# Altium schematic symbol library Connectors.SchLib: 43 symbols
Pins are listed as number, name and electrical type; pins without a type are passive.

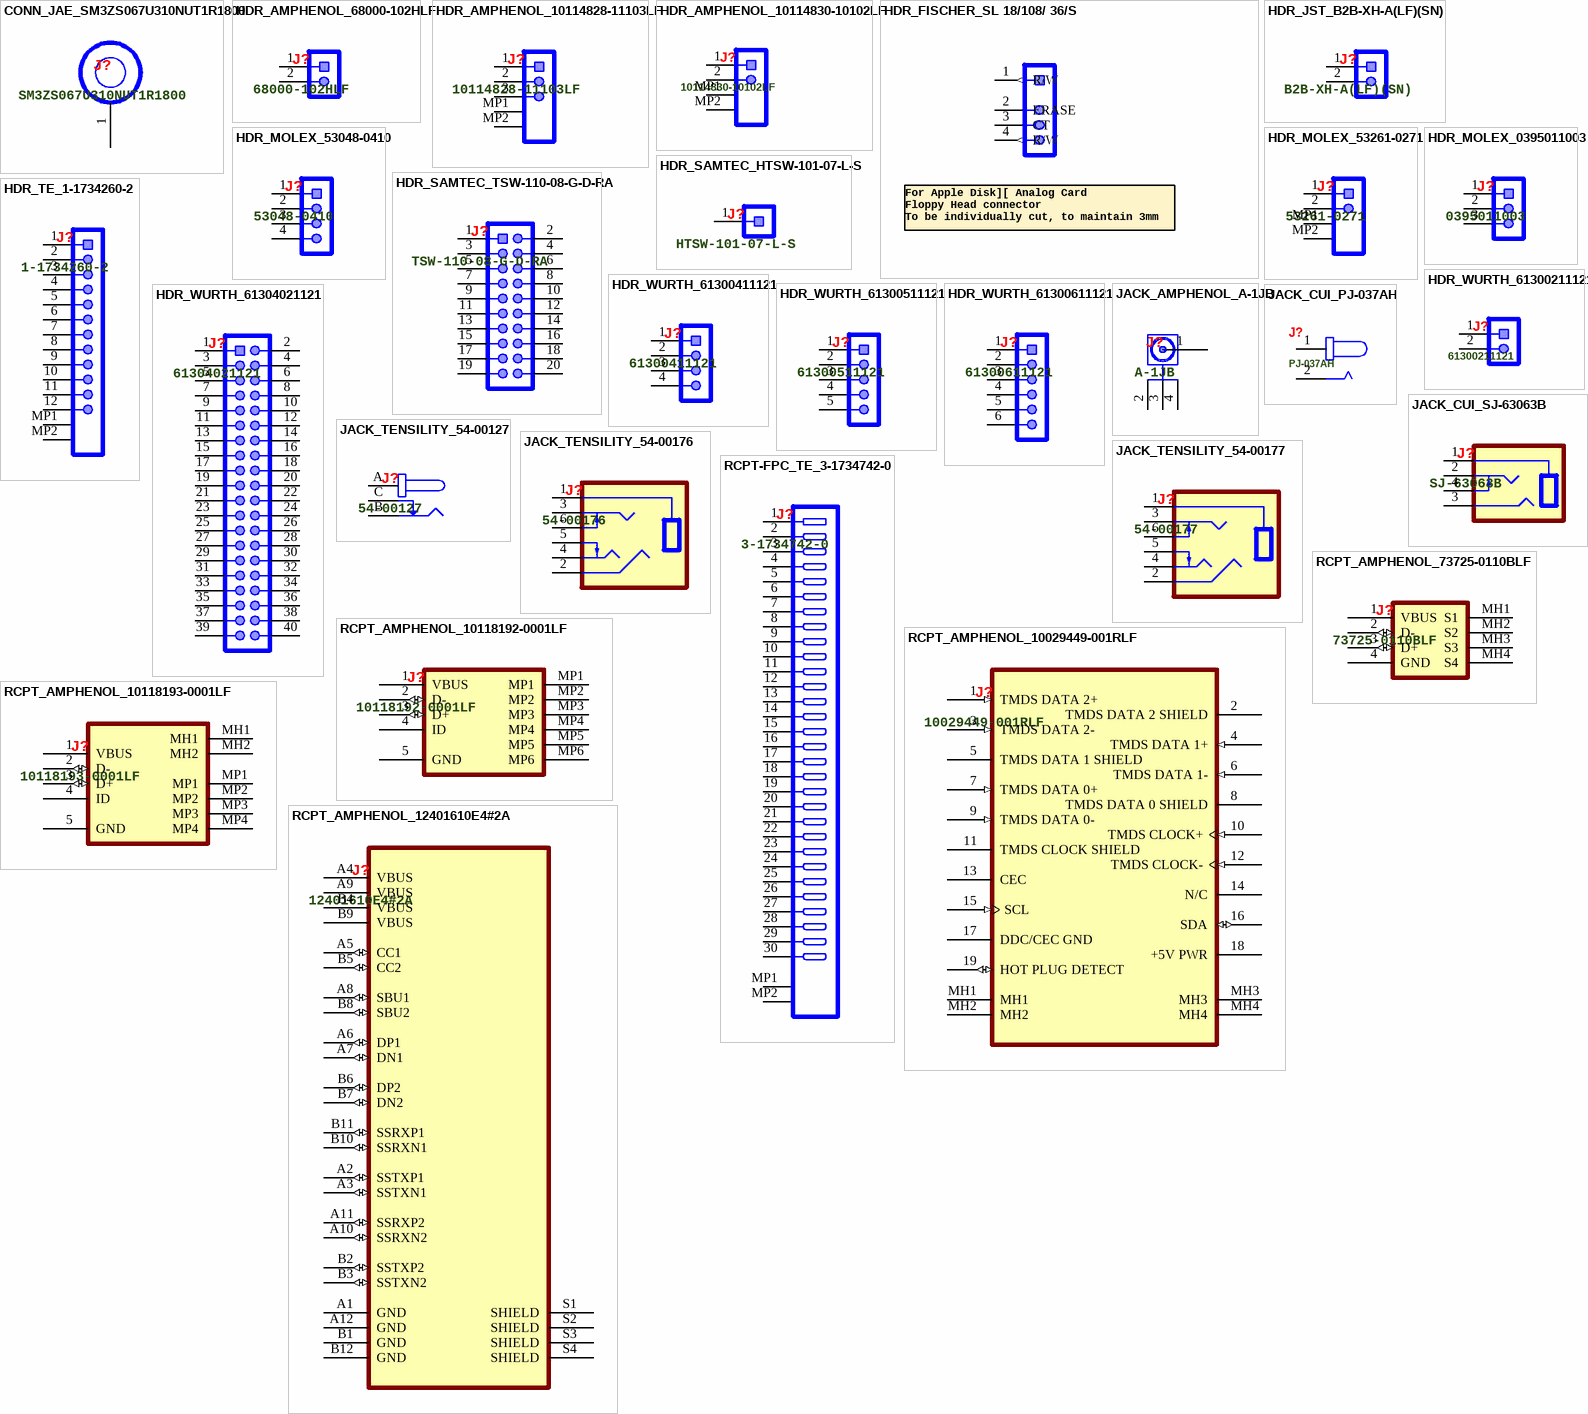
[diagram p0: symbols CONN_JAE_SM3ZS067U310NUT1R1800 to RCPT_AMPHENOL_12401610E4#2A]

## CONN_JAE_SM3ZS067U310NUT1R1800
designator J?, comment SM3ZS067U310NUT1R1800
Connector Standoff For SM3 Series; Manufacturer: JAE Electronics; Number of Contacts: 1; Manufacturer Part Number: SM3ZS067U310NUT1R1800; Category: Card Edge Connectors; ComponentLink1URL: https://www.jae.com/direct/topics/topics_file_download/?topics_id=68917&ext_no=04&_lang=en; ComponentLink1Description: Datasheet; Supplier 1: Digi-Key; Supplier Part Number 1: 670-2864-1-ND; Supplier 2: Mouser; Supplier Part Number 2: 656-SM3ZS67U31NT1800; RoHS Compliant: Yes
footprint JAE_SM3ZS067U310-NUT1-R1800 (Standoff nut for PCIe M.2 Card)
pins: 1

## HDR_AMPHENOL_68000-102HLF
designator J?, comment 68000-102HLF
Header Vertical Through Hole 2 position 0.100" (2.54mm); Manufacturer: Amphenol ICC; Contact Length - Mating: 5.84mm; Contact Length - Post: 2.81mm; Current Rating: 3A; Gender: Male; Number of Contacts: 2; Overall Contact Length: 10.80mm; Shrouding: Unshrouded; Voltage Rating: 250V; Manufacturer Part Number: 68000-102HLF; ComponentLink1URL: https://cdn.amphenol-cs.com/media/wysiwyg/files/drawing/68000.pdf; ComponentLink1Description: Datasheet; Category: Headers and Wire Housings; Contact Plating: Gold; Max Operating Temperature: 125°C; Min Operating Temperature: -65°C; Number of Positions: 2; Number of Rows: 1; Supplier 1: Digi-Key; Supplier Part Number 1: 609-3500-ND; Supplier 2: Mouser; Supplier Part Number 2: 649-68000-102HLF; Orientation: Straight; Pitch: 2.54mm; RoHS Compliant: Yes
footprint AMPHENOL_68000-102HLF (Connector Header Through Hole 2 position 0.100" (2.54mm))
pins: 1, 2

## HDR_AMPHENOL_10114828-11103LF
designator J?, comment 10114828-11103LF
Header Surface Mount 3 position 0.049" (1.25mm); Manufacturer: Amphenol Communications Solutions; Contact Length - Mating: 2.25mm; Current Rating: 1A; Gender: Male; Number of Contacts: 3; Shrouding: Shrouded - 3 Wall; Voltage Rating: 125V; Manufacturer Part Number: 10114828-11103LF; ComponentLink1Description: Datasheet; ComponentLink1URL: https://cdn.amphenol-cs.com/media/wysiwyg/files/documentation/datasheet/boardwiretoboard/bwb_1.25mm_wtb.pdf; Category: Headers and Wire Housings; Contact Plating: Gold; Max Operating Temperature: 105°C; Min Operating Temperature: -40°C; Number of Positions: 3; Number of Rows: 1; Supplier 1: Digi-Key; Supplier Part Number 1: 609-10114828-11103LFCT-ND; Supplier 2: Mouser; Supplier Part Number 2: 649-10114828-11103LF; Orientation: Straight; Pitch: 1.25mm; RoHS Compliant: Yes
footprint AMPHENOL_10114828-11103LF (Connector Header Surface Mount 3 position 0.049" (1.25mm))
pins: 1, 2, 3, MP1, MP2

## HDR_AMPHENOL_10114830-10102LF
designator J?, comment 10114830-10102LF
Header Right Angle Surface Mount 2 position 0.049" (1.25mm); Manufacturer: Amphenol Communications Solutions; Voltage Rating: 125V; Current Rating: 1A; Number of Positions: 2; Gender: Male; Shrouding: Shrouded - 4 Wall; Manufacturer Part Number: 10114830-10102LF; Category: Headers and Wire Housings; ComponentLink1Description: Datasheet; ComponentLink1URL: https://cdn.amphenol-cs.com/media/wysiwyg/files/documentation/gs-12-675.pdf; ComponentLink2Description: Drawing; ComponentLink2URL: https://cdn.amphenol-cs.com/media/wysiwyg/files/drawing/10114830.pdf; Contact Plating: Tin; Min Operating Temperature: -40°C; Max Operating Temperature: 105°C; Number of Rows: 1; Pitch: 1.25mm; RoHS Compliant: Yes; Supplier 1: Digi-Key; Supplier Part Number 1: 609-5378-1-ND; Supplier 2: Mouser; Supplier Part Number 2: 649-10114830-10102LF; Number of Contacts: 2; Orientation: Right Angle
footprint AMPHENOL_10114830-10102LF (Connector Header Surface Mount, Right Angle 2 position 0.049" (1.25mm))
pins: 1, 2, MP1, MP2

## HDR_FISCHER_SL 18/108/ 36/S
designator J?, comment R/W Erase Head Connector
Header Right Angle Through Hole 36 Position 0.100" (2.54mm); Manufacturer: Fischer Elektronik; Manufacturer Part Number: SL 18/108/ 36/S; Current Rating: 3A; Contact Length - Mating: 10.80mm; Contact Length - Post: 3mm; Gender: Male; Number of Contacts: 36; Shrouding: Unshrouded; Voltage Rating: 250V; Supplier 1: Conrad; Supplier Part Number 1: 739134; Category: Headers and Wire Housings; Min Operating Temperature: -40°C; Max Operating Temperature: 163°C; Number of Rows: 1; ComponentLink1URL: https://datasheet.ciiva.com/26338/739134-da-01-de-stiftleiste-sl-18-108-36-s-26338987.pdf?src-supplier=Conrad; ComponentLink1Description: Datasheet; Contact Plating: Tin; Number of Positions: 36; Orientation: Right Angle; Pitch: 2.54mm; RoHS Compliant: Yes
footprint HDRRA5W64P300_1X4_2510X1510X55 (Header, Right Angle, 1 row by 5 pins with 1 missing pin; 25.10mm L X 1.51mm W X 5.5mm H body)
pins: 1 R/W (out), 2 ERASE, 3 CT, 4 R/W (out)
text: For Apple Disk][ Analog Card / Floppy Head connector / To be individually cut, to maintain 3mm pitch

## HDR_JST_B2B-XH-A(LF)(SN)
designator J?, comment B2B-XH-A(LF)(SN)
Header Vertical Through Hole 2 position 0.098" (2.50mm); Manufacturer: JST; Current Rating: 3A; Voltage Rating: 250V; Number of Positions: 2; Shrouding: Shrouded - 4 Wall; Gender: Male; Manufacturer Part Number: B2B-XH-A(LF)(SN); Category: Headers and Wire Housings; Contact Plating: Tin; Min Operating Temperature: -25°C; Max Operating Temperature: 85°C; Number of Rows: 1; Number of Contacts: 2; Orientation: Straight; ComponentLink1URL: https://www.jst-mfg.com/product/pdf/eng/eXH.pdf; ComponentLink1Description: Datasheet; Pitch: 2.50mm; RoHS Compliant: Yes; Supplier 1: Digi-Key; Supplier Part Number 1: 455-2247-ND
footprint JST_B2B-XH-A(LF)(SN) (Connector Header Through Hole 2 position 0.098" (2.50mm))
pins: 1, 2

## HDR_MOLEX_53048-0410
designator J?, comment 53048-0410
Header Right Angle Through Hole 4 position 0.049" (1.25mm); Manufacturer: Molex; Number of Contacts: 4; Voltage Rating: 125V; Gender: Male; Current Rating: 1A; Shrouding: Shrouded - 4 Wall; Manufacturer Part Number: 53048-0410; Category: Headers and Wire Housings; Contact Plating: Tin; Min Operating Temperature: -40°C; Max Operating Temperature: 85°C; Number of Rows: 1; Orientation: Right Angle; Number of Positions: 4; Pitch: 1.25mm; RoHS Compliant: Yes; ComponentLink1URL: https://www.molex.com/pdm_docs/sd/530480410_sd.pdf; ComponentLink1Description: Datasheet; Supplier 1: Digi-Key; Supplier Part Number 1: WM1744-ND; Supplier 2: Mouser; Supplier Part Number 2: 538-53048-0410
footprint MOLEX_530480410 (Connector Header Through Hole, Right Angle 4 position 0.049" (1.25mm))
pins: 1, 2, 3, 4

## HDR_MOLEX_53261-0271
designator J?, comment 53261-0271
Header Surface Mount, Right Angle 2 position 0.049" (1.25mm); Manufacturer: Molex; Voltage Rating: 125V; Current Rating: 1A; Number of Positions: 2; Gender: Male; Shrouding: Shrouded - 4 Wall; Manufacturer Part Number: 53261-0271; Category: Headers and Wire Housings; Contact Plating: Tin; Min Operating Temperature: -40°C; Max Operating Temperature: 85°C; Number of Rows: 1; Pitch: 1.25mm; RoHS Compliant: Yes; ComponentLink1URL: https://www.molex.com/pdm_docs/sd/532610271_sd.pdf; ComponentLink1Description: Datasheet; Supplier 1: Digi-Key; Supplier Part Number 1: WM7620CT-ND; Supplier 2: Mouser; Supplier Part Number 2: 538-53261-0271; Number of Contacts: 2; Orientation: Right Angle
footprint MOLEX_0532610271 (Connector Header Surface Mount, Right Angle 2 position 0.049" (1.25mm))
pins: 1, 2, MP1, MP2

## HDR_MOLEX_0395011003
designator J?, comment 0395011003
Terminal Block Header 3 Position, Male Pins, Shrouded (4 Side) 0.138" (3.50mm) Vertical Through Hole; Manufacturer: Molex; Current Rating: 8A; Number of Positions: 3; Shrouding: Shrouded - 4 Wall; Voltage Rating: 300V; Manufacturer Part Number: 0395011003; Category: Headers, Plugs and Sockets; ComponentLink1URL: https://www.molex.com/pdm_docs/sd/395011002_sd.pdf; ComponentLink1Description: Datasheet; Contact Plating: Tin; Gender: Male; Max Operating Temperature: 105°C; Min Operating Temperature: -40°C; Number of Rows: 1; Pitch: 3.50mm; RoHS Compliant: Yes; Supplier 1: Digi-Key; Supplier Part Number 1: WM7752-ND; Supplier 2: Mouser; Supplier Part Number 2: 538-39501-1003; Orientation: Straight; Number of Contacts: 3
footprint MOLEX_0395011003 (3 Position Terminal Block Header, Male Pins, Shrouded (4 Side) 0.138" (3.50mm) Vertical - Through Hole)
pins: 1, 2, 3

## HDR_SAMTEC_HTSW-101-07-L-S
designator J?, comment HTSW-101-07-L-S
Header Vertical Through Hole 1 position; Manufacturer: Samtec; Number of Contacts: 1; Gender: Male; Contact Length - Mating: 5.84mm; Contact Length - Post: 2.54mm; Overall Contact Length: 10.92mm; Shrouding: Unshrouded; Voltage Rating: 500V; Manufacturer Part Number: HTSW-101-07-L-S; Category: Headers and Wire Housings; Contact Plating: Gold; Min Operating Temperature: -55°C; Max Operating Temperature: 125°C; Number of Rows: 1; Number of Positions: 1; Orientation: Straight; RoHS Compliant: Yes; ComponentLink1URL: http://suddendocs.samtec.com/catalog_english/htsw_th.pdf; ComponentLink1Description: Datasheet; Supplier 1: Digi-Key; Supplier 2: Mouser; Supplier Part Number 1: SAM15192-ND; Supplier Part Number 2: 200-HTSW10107LS
footprint SAMTEC_HTSW-101-07-L-S (Connector Header Through Hole 1 position)
pins: 1

## HDR_SAMTEC_TSW-110-08-G-D-RA
designator J?, comment TSW-110-08-G-D-RA
Header Through Hole, Right Angle 20 position 0.100" (2.54mm); Manufacturer: Samtec; Number of Contacts: 20; Gender: Male; Contact Length - Mating: 5.84mm; Contact Length - Post: 2.29mm; Shrouding: Unshrouded; Voltage Rating: 500V; Manufacturer Part Number: TSW-110-08-G-D-RA; Category: Headers and Wire Housings; Contact Plating: Gold; Min Operating Temperature: -55°C; Max Operating Temperature: 125°C; Number of Rows: 2; Number of Positions: 20; Orientation: Right Angle; Pitch: 2.54mm; RoHS Compliant: Yes; ComponentLink1URL: https://www.digikey.com/htmldatasheets/production/880348/0/0/1/tsw-104-07-t-d.pdf; ComponentLink1Description: Datasheet; Supplier 1: Digi-Key; Supplier 2: Mouser; Supplier Part Number 1: SAM1037-10-ND; Supplier Part Number 2: 200-TSW11008GDRA
footprint SAMTEC_TSW-110-08-G-D-RA (Connector Header Through Hole, Right Angle 20 position 0.100" (2.54mm))
pins: 1, 2, 3, 4, 5, 6, 7, 8, 9, 10, 11, 12, 13, 14, 15, 16, 17, 18, 19, 20

## HDR_TE_1-1734260-2
designator J?, comment 1-1734260-2
Header Vertical Surface Mount 12 position 0.049" (1.25mm); Manufacturer: TE Connectivity; Current Rating: 1A; Gender: Male; Number of Contacts: 12; Shrouding: Shrouded - 3 Wall; Voltage Rating: 125V; Manufacturer Part Number: 1-1734260-2; Category: Rectangular Connectors; ComponentLink1URL: https://www.te.com/commerce/DocumentDelivery/DDEController?Action=srchrtrv&DocNm=1734260&DocType=Customer+Drawing&DocLang=English; ComponentLink1Description: Datasheet; Max Operating Temperature: 85°C; Min Operating Temperature: -25°C; Number of Positions: 12; Number of Rows: 1; Orientation: Straight; Pitch: 1.25mm; RoHS Compliant: Yes; Supplier 1: Digi-Key; Supplier Part Number 1: A98746CT-ND; Supplier 2: Mouser; Supplier Part Number 2: 571-1-1734260-2
footprint TE_1-1734260-2 (Connector Header Surface Mount 12 position 0.049" (1.25mm))
pins: 1, 2, 3, 4, 5, 6, 7, 8, 9, 10, 11, 12, MP1, MP2

## HDR_WURTH_61300211121
designator J?, comment 61300211121
Header Vertical Through Hole 2 position 0.100" (2.54mm); Manufacturer: Wurth Electronics; Current Rating: 3A; Voltage Rating: 250V; Number of Positions: 2; Contact Length - Mating: 6.0mm; Contact Length - Post: 3.0mm; Shrouding: Unshrouded; Gender: Male; Overall Contact Length: 11.54mm; Manufacturer Part Number: 61300211121; Category: Headers and Wire Housings; Contact Plating: Gold; Min Operating Temperature: -40°C; Max Operating Temperature: 105°C; Number of Rows: 1; Pitch: 2.54mm; ComponentLink1URL: https://www.we-online.com/components/products/datasheet/6130xx11121.pdf; ComponentLink1Description: Datasheet; RoHS Compliant: Yes; Supplier 1: Digi-Key; Supplier Part Number 1: 732-5315-ND; Supplier 2: Mouser; Supplier Part Number 2: 710-61300211121; Number of Contacts: 2; Orientation: Straight
footprint WURTH_61300211121 (Connector Header Through Hole 2 position 0.100" (2.54mm))
pins: 1, 2

## HDR_WURTH_61300411121
designator J?, comment 61300411121
Header Vertical Through Hole 4 position 0.100" (2.54mm); Manufacturer: Wurth Electronics; Number of Positions: 4; Gender: Male; Contact Length - Mating: 6.0mm; Contact Length - Post: 3.0mm; Current Rating: 3A; Shrouding: Unshrouded; Overall Contact Length: 11.54mm; Voltage Rating: 250V; Manufacturer Part Number: 61300411121; Category: Headers and Wire Housings; Contact Plating: Gold; Number of Rows: 1; Number of Contacts: 4; Pitch: 2.54mm; RoHS Compliant: Yes; ComponentLink1URL: https://www.we-online.com/components/products/datasheet/6130xx11121.pdf; ComponentLink1Description: Datasheet; Max Operating Temperature: 105°C; Min Operating Temperature: -40°C; Supplier 1: Digi-Key; Supplier Part Number 1: 732-5317-ND; Supplier 2: Mouser; Supplier Part Number 2: 710-61300411121; Orientation: Straight
footprint WURTH_61300411121 (Connector Header Through Hole 4 position 0.100" (2.54mm))
pins: 1, 2, 3, 4

## HDR_WURTH_61300511121
designator J?, comment 61300511121
Header Vertical Through Hole 5 position 0.100" (2.54mm); Manufacturer: Wurth Electronics; Number of Positions: 5; Gender: Male; Contact Length - Mating: 6.0mm; Contact Length - Post: 3.0mm; Current Rating: 3A; Overall Contact Length: 11.54mm; Shrouding: Unshrouded; Voltage Rating: 250V; Manufacturer Part Number: 61300511121; Category: Headers and Wire Housings; Contact Plating: Gold; Number of Rows: 1; Number of Contacts: 5; Pitch: 2.54mm; RoHS Compliant: Yes; ComponentLink1URL: https://www.we-online.com/katalog/datasheet/6130xx11121.pdf; ComponentLink1Description: Datasheet; Max Operating Temperature: 105°C; Min Operating Temperature: -40°C; Orientation: Straight; Supplier 1: Digi-Key; Supplier Part Number 1: 732-5318-ND; Supplier 2: Mouser; Supplier Part Number 2: 710-61300511121
footprint WURTH_61300511121 (Connector Header Through Hole 5 position 0.100" (2.54mm))
pins: 1, 2, 3, 4, 5

## HDR_WURTH_61300611121
designator J?, comment 61300611121
Header Vertical Through Hole 6 position 0.100" (2.54mm); Manufacturer: Wurth Electronics; Contact Length - Mating: 6.0mm; Contact Length - Post: 3.0mm; Current Rating: 3A; Gender: Male; Number of Contacts: 6; Overall Contact Length: 11.54mm; Shrouding: Unshrouded; Voltage Rating: 250V; ComponentLink1URL: https://www.we-online.com/components/products/datasheet/6130xx11121.pdf; ComponentLink1Description: Datasheet; Manufacturer Part Number: 61300611121; Category: Headers and Wire Housings; Contact Plating: Gold; Max Operating Temperature: 105°C; Min Operating Temperature: -40°C; Number of Positions: 6; Number of Rows: 1; Pitch: 2.54mm; RoHS Compliant: Yes; Supplier 1: Digi-Key; Supplier Part Number 1: 732-5319-ND; Supplier 2: Mouser; Supplier Part Number 2: 710-61300611121; Orientation: Straight
footprint WURTH_61300611121 (Connector Header Through Hole 6 position 0.100" (2.54mm))
pins: 1, 2, 3, 4, 5, 6

## HDR_WURTH_61304021121
designator J?, comment 61304021121
Header Vertical Through Hole 40 position 0.100" (2.54mm); Manufacturer: Wurth Electronics; Number of Positions: 40; Gender: Male; Voltage Rating: 250V; Contact Length - Mating: 6.0mm; Contact Length - Post: 3.0mm; Current Rating: 3A; Overall Contact Length: 11.54mm; Shrouding: Unshrouded; Manufacturer Part Number: 61304021121; Category: Headers and Wire Housings; Contact Plating: Gold; Min Operating Temperature: -40°C; Max Operating Temperature: 105°C; Number of Rows: 2; Number of Contacts: 40; Pitch: 2.54mm; RoHS Compliant: Yes; ComponentLink1URL: https://www.we-online.com/katalog/datasheet/6130xx21121.pdf; ComponentLink1Description: Datasheet; Orientation: Straight; Supplier 1: Digi-Key; Supplier Part Number 1: 732-5310-ND; Supplier 2: Mouser; Supplier Part Number 2: 710-61304021121
footprint WURTH_61304021121 (Connector Header Through Hole 40 position 0.100" (2.54mm))
pins: 1, 2, 3, 4, 5, 6, 7, 8, 9, 10, 11, 12, 13, 14, 15, 16, 17, 18, 19, 20, 21, 22, 23, 24, 25, 26, 27, 28, 29, 30, 31, 32, 33, 34, 35, 36, 37, 38, 39, 40

## JACK_AMPHENOL_A-1JB
designator J?, comment A-1JB
U.FL (UMCC), AMC Connector Jack, Male Pin 50Ohm Surface Mount Solder; Manufacturer: Amphenol RF; Voltage Rating: 60V; Impedance: 50R; Frequency: 6Hz; Clock Frequency: 6GHz; Number of Contacts: 4; Manufacturer Part Number: A-1JB; Category: RF / Coaxial Connectors; Contact Plating: Gold; Min Operating Temperature: -40°C; Max Operating Temperature: 90°C; Orientation: Straight; RoHS Compliant: Yes; ComponentLink1URL: https://s3-us-west-2.amazonaws.com/catsy.582/ca-1jb.pdf; ComponentLink1Description: Datasheet; Gender: Male; Supplier 1: Digi-Key; Supplier Part Number 1: 115-A-1JBCT-ND; Supplier 2: Mouser; Supplier Part Number 2: 523-A-1JB
footprint AMPHENOL_A-1JB (U.FL (UMCC), AMC Connector Jack, Male Pin 50Ohm Surface Mount Solder)
pins: 1 SIGNAL, 2 GND (power), 3 GND (power), 4 GND (power)

## JACK_CUI_PJ-037AH
designator J?, comment PJ-037AH
Power Barrel Connector Jack 2.10mm ID (0.083"), 5.50mm OD (0.217") Through Hole, Right Angle; Manufacturer: CUI; Gender: Male; Current Rating: 5A; Voltage Rating: 24V; Number of Contacts: 2; Manufacturer Part Number: PJ-037AH; Category: Power Connectors; Color: Black; Contact Plating: Silver; Min Operating Temperature: -25°C; Max Operating Temperature: 85°C; Orientation: Horizontal; RoHS Compliant: Yes; ComponentLink1Description: Datasheet; ComponentLink1URL: https://www.digikey.com/htmldatasheets/production/665053/0/0/1/pj-037ah.pdf; Supplier 1: Digi-Key; Supplier 2: Mouser; Supplier Part Number 1: CP-037AH-ND; Supplier Part Number 2: 490-PJ-037AH
footprint CUI_PJ-037AH (Power Barrel Connector Jack 2.10mm ID (0.083"), 5.50mm OD (0.217") Through Hole, Right Angle)
pins: 1, 2

## JACK_CUI_SJ-63063B
designator J?, comment SJ-63063B
Headphone Phone Jack Stereo 6.35mm (0.250", 1/4") -  (3 Conductor, TRS) Connector Solder; Manufacturer: CUI Devices; Gender: Receptacle; Signal Lines: Stereo (3 Conductor; TRS); Mating Diameter: 6.35mm - Headphone; Voltage Rating (DC): 12V; Current Rating: 1A; Voltage Rating: 500V; Number of Contacts: 4; Manufacturer Part Number: SJ-63063B; Category: Audio / Video Connectors; ComponentLink1URL: https://www.cuidevices.com/product/resource/sj-6306.pdf; ComponentLink1Description: Datasheet; Features: Cover, Mounting Hardware, Thread Lock; RoHS Compliant: Yes; Supplier 1: Digi-Key; Supplier 2: Mouser; Supplier Part Number 1: 2223-SJ-63063B-ND; Supplier Part Number 2: 490-SJ-63063B; Orientation: Right Angle
footprint CUI_SJ-63063B (6.35 mm, Stereo, Right Angle, Through Hole, 3 Conductors, 1 Internal Tip Switch, Audio Jack Connector)
pins: 1 Sleeve (power) "Ground", 2 Tip "Left Channel", 3 Ring "Right Channel", 4 Tip_Switch "Switch Normally Closed"

## JACK_TENSILITY_54-00127
designator J?, comment 54-00127
Power Barrel Connector Jack 2.10mm ID (0.083"), 5.50mm OD (0.217") Through Hole, Right Angle; Manufacturer: Tensility; Gender: Male; Voltage Rating: 48V; Current Rating: 6A; Number of Contacts: 3; Manufacturer Part Number: 54-00127; Category: Power Connectors; Contact Plating: Silver; Min Operating Temperature: -25°C; Max Operating Temperature: 85°C; ComponentLink1URL: https://tensility.s3-us-west-2.amazonaws.com/uploads/product_doc/document/3422/54-00127.pdf; ComponentLink1Description: Datasheet; Orientation: Right Angle; Supplier 1: Digi-Key; Supplier Part Number 1: 839-1510-ND; RoHS Compliant: Yes
footprint TENSILITY_54-00127 (Power Barrel Connector Jack 2.10mm ID (0.083"), 5.50mm OD (0.217") Through Hole, Right Angle)
pins: A, B, C

## JACK_TENSILITY_54-00176
designator J?, comment 54-00176
Headphone Phone Jack Stereo 3.50mm (0.141", 1/8", Mini Plug) - (4 Conductor, TRRS) Connector Solder; Manufacturer: Tensility; Current Rating: 0.5A; Gender: Receptacle; Mating Diameter: 3.50mm - Headphone; Number of Contacts: 6; Signal Lines: Stereo (4 Conductor; TRRS); Voltage Rating (DC): 48V; Manufacturer Part Number: 54-00176; Category: Audio / Video Connectors; ComponentLink1Description: Datasheet; ComponentLink1URL: https://tensility.s3-us-west-2.amazonaws.com/uploads/product_doc/document/4371/54-00176.pdf; Contact Plating: Gold; Features: Board Guide; Orientation: Right Angle; RoHS Compliant: Yes; Supplier 1: Digi-Key; Supplier Part Number 1: 839-54-00176CT-ND
footprint TENSILITY-54-00176 (3.50mm (0.141", 1/8", Mini Plug) - Headphone Phone Jack Stereo (4 Conductor, TRRS) Connector Solder)
pins: 1 Sleeve (power) "Ground", 2 Tip "Left Channel", 3 Ring "Right Channel", 4 Tip_Switch "Switch Normally Closed", 5 Tip_Switch "Switch Normally Closed", 6 Tip_Switch "Switch Normally Closed"

## JACK_TENSILITY_54-00177
designator J?, comment 54-00177
Headphone Phone Jack Stereo 3.50mm (0.141", 1/8", Mini Plug) - (4 Conductor, TRRS) Connector Solder; Manufacturer: Tensility; Current Rating: 0.5A; Gender: Receptacle; Number of Contacts: 6; Signal Lines: Stereo (4 Conductor; TRRS); Voltage Rating (DC): 48V; Manufacturer Part Number: 54-00177; Category: Audio / Video Connectors; ComponentLink1Description: Datasheet; ComponentLink1URL: https://tensility.s3-us-west-2.amazonaws.com/uploads/product_doc/document/4373/54-00177.pdf; Contact Plating: Gold; Features: Board Guide; Orientation: Right Angle; RoHS Compliant: Yes; Supplier 1: Digi-Key; Supplier Part Number 1: 839-54-00177CT-ND
footprint TENSILITY-54-00177 (3.50mm (0.141", 1/8", Mini Plug) - Headphone Phone Jack Stereo (4 Conductor, TRRS) Connector Solder)
pins: 1 Sleeve (power) "Ground", 2 Tip "Left Channel", 3 Ring "Right Channel", 4 Tip_Switch "Switch Normally Closed", 5 Tip_Switch "Switch Normally Closed", 6 Tip_Switch "Switch Normally Closed"

## RCPT-FPC_TE_3-1734742-0
designator J?, comment 3-1734742-0
Receptacle FFC, FPC 30 Position Contacts, Vertical - 1 Sided 0.020" (0.50mm) Surface Mount; Manufacturer: TE Connectivity; Number of Contacts: 30; Current Rating: 500mA; Voltage Rating: 50V; Pitch: 0.5mm; Manufacturer Part Number: 3-1734742-0; Category: FFC, FPC (Flat Flexible) Connectors; Contact Plating: Gold; Min Operating Temperature: -4°C; Max Operating Temperature: 185°C; Number of Rows: 1; Orientation: Straight; Gender: Receptacle; Number of Positions: 30; RoHS Compliant: Yes; ComponentLink1URL: https://www.te.com/commerce/DocumentDelivery/DDEController?Action=srchrtrv&DocNm=1734742&DocType=Customer+Drawing&DocLang=English; ComponentLink1Description: Datasheet; Supplier 1: Digi-Key; Supplier Part Number 1: A100240CT-ND; Supplier 2: Mouser; Supplier Part Number 2: 571-3-1734742-0
footprint TE_3-1734742-0 (30 Position FFC, FPC Connector Contacts, Vertical - 1 Sided 0.020" (0.50mm) Surface Mount)
pins: 1, 2, 3, 4, 5, 6, 7, 8, 9, 10, 11, 12, 13, 14, 15, 16, 17, 18, 19, 20, 21, 22, 23, 24, 25, 26, 27, 28, 29, 30, MP1, MP2

## RCPT_AMPHENOL_73725-0110BLF
designator J?, comment 73725-0110BLF
Receptacle USB-A (USB TYPE-A) USB 2.0  4 Position Through Hole, Right Angle; Manufacturer: Amphenol ICC; Current Rating: 2.5A; Number of Contacts: 4; Manufacturer Part Number: 73725-0110BLF; Category: USB, DVI, HDMI Connectors; ComponentLink1URL: https://www.amphenol-icc.com/media/wysiwyg/files/drawing/73725.pdf; ComponentLink1Description: Datasheet; Contact Plating: Gold; Gender: Receptacle; Max Operating Temperature: 85°C; Min Operating Temperature: -55°C; Orientation: Vertical, Right Angle; RoHS Compliant: Yes; Supplier 1: Digi-Key; Supplier Part Number 1: 609-1041-ND; Supplier 2: Mouser; Supplier Part Number 2: 649-73725-0110BLF
footprint AMPHENOL_73725-00110BLF (USB-A (USB TYPE-A) USB 2.0 Receptacle Connector 4 Position Through Hole, Right Angle)
pins: 1 VBUS (power), 2 D- (io), 3 D+ (io), 4 GND (power), MH1 S1, MH2 S2, MH3 S3, MH4 S4

## RCPT_AMPHENOL_10029449-001RLF
designator J?, comment 10029449-001RLF
Receptacle HDMI HDMI 1.4 19 Position Surface Mount, Right Angle; Through Hole; Manufacturer: Amphenol ICC; Current Rating: 0.5A; Voltage Rating: 40V; Number of Contacts: 19; Manufacturer Part Number: 10029449-001RLF; Category: USB, DVI, HDMI Connectors; ComponentLink1URL: https://www.amphenol-cs.com/media/wysiwyg/files/drawing/10029449.pdf; ComponentLink1Description: Datasheet; Contact Plating: Gold; Gender: Receptacle; Max Operating Temperature: 85°C; Min Operating Temperature: -20°C; Orientation: Right Angle; Supplier 1: Digi-Key; Supplier Part Number 1: 609-1010-1-ND; Supplier 2: Mouser; Supplier Part Number 2: 649-10029449-001RLF; RoHS Compliant: Yes
footprint AMPHENOL_10029449-001RLF (HDMI HDMI 1.4 Receptacle Connector 19 Position Surface Mount, Right Angle; Through Hole)
pins: 1 TMDS DATA 2+ (in), 2 TMDS DATA 2 SHIELD (power), 3 TMDS DATA 2- (in), 4 TMDS DATA 1+ (in), 5 TMDS DATA 1 SHIELD (power), 6 TMDS DATA 1- (in), 7 TMDS DATA 0+ (in), 8 TMDS DATA 0 SHIELD (power), 9 TMDS DATA 0- (in), 10 TMDS CLOCK+ (in), 11 TMDS CLOCK SHIELD (power), 12 TMDS CLOCK- (in), 13 CEC, 14 N/C, 15 SCL (in), 16 SDA (io), 17 DDC/CEC GND (power), 18 +5V PWR (power), 19 HOT PLUG DETECT (io), MH1 (power), MH2 (power), MH3 (power), MH4 (power)

## RCPT_AMPHENOL_10118192-0001LF
designator J?, comment 10118192-0001LF
Receptacle USB - micro B USB 2.0 5 Position Surface Mount, Right Angle; Manufacturer: AMPHENOL ICC (FCI); Number of Contacts: 5; Voltage Rating: 100V; Manufacturer Part Number: 10118192-0001LF; ComponentLink1URL: http://www.farnell.com/cad/1935767.pdf?src-supplier=Farnell; ComponentLink1Description: Datasheet; Category: USB, DVI, HDMI Connectors; Contact Plating: Gold; Gender: Receptacle; Max Operating Temperature: 80°C; Min Operating Temperature: -30°C; Orientation: Right Angle; RoHS Compliant: Yes; Supplier 1: Digi-Key; Supplier Part Number 1: 609-4613-2-ND; Supplier 2: Mouser; Supplier Part Number 2: 649-10118192-0001LF
footprint AMPHENOL_10118192-0001LF (USB - micro B USB 2.0 Receptacle Connector 5 Position Surface Mount, Right Angle)
pins: 1 VBUS (power), 2 D- (io), 3 D+ (io), 4 ID, 5 GND (power), MP1, MP2, MP3, MP4, MP5, MP6

## RCPT_AMPHENOL_10118193-0001LF
designator J?, comment 10118193-0001LF
Receptacle USB - micro B USB 2.0 5 Position Surface Mount, Right Angle; Through Hole; Manufacturer: Amphenol ICC; Number of Contacts: 5; Voltage Rating: 100V; Manufacturer Part Number: 10118193-0001LF; Category: USB, DVI, HDMI Connectors; ComponentLink1URL: https://cdn.amphenol-cs.com/media/wysiwyg/files/documentation/datasheet/inputoutput/io_usb_micro.pdf; ComponentLink1Description: Datasheet; Contact Plating: Gold; Gender: Receptacle; Max Operating Temperature: 80°C; Min Operating Temperature: -30°C; RoHS Compliant: Yes; Orientation: Right Angle; Supplier 1: Digi-Key; Supplier Part Number 1: 609-4616-1-ND; Supplier 2: Mouser; Supplier Part Number 2: 649-10118193-0001LF
footprint AMPHENOL_10118193-0001LF (Footprint not found)
pins: 1 VBUS (power), 2 D- (io), 3 D+ (io), 4 ID, 5 GND (power), MH1, MH2, MP1, MP2, MP3, MP4

## RCPT_AMPHENOL_12401610E4#2A
designator J?, comment 12401610E4#2A
Receptacle USB-C (USB TYPE-C) USB 3.2 Gen 2 (USB 3.1 Gen 2, Superspeed + (USB 3.1)) 24 Position Surface Mount, Right Angle; Through Hole; Manufacturer: Amphenol Commercial; Number of Contacts: 24; Manufacturer Part Number: 12401610E4#2A; Category: USB, DVI, HDMI Connectors; ComponentLink1Description: Datasheet; ComponentLink1URL: https://www.amphenol-cs.com/media/wysiwyg/files/drawing/12401610e4x2a.pdf; Contact Plating: Gold; Gender: Receptacle; Orientation: Right Angle; RoHS Compliant: Yes; Supplier 1: Digi-Key; Supplier Part Number 1: 12401610E4#2ATR-ND; Supplier 2: Mouser; Supplier Part Number 2: 523-12401610E4#2A
footprint AMPHENOL_12401610E4#2A (USB-C (USB TYPE-C) USB 3.2 Gen 2 (USB 3.1 Gen 2, Superspeed + (USB 3.1)) Receptacle Connector 24 Position Surface Mount, Right Angle; Through Hole)
pins: A1 GND (power), A2 SSTXP1 (io), A3 SSTXN1 (io), A4 VBUS (power), A5 CC1 (io), A6 DP1 (io), A7 DN1 (io), A8 SBU1 (io), A9 VBUS (power), A10 SSRXN2 (io), A11 SSRXP2 (io), A12 GND (power), B1 GND (power), B2 SSTXP2 (io), B3 SSTXN2 (io), B4 VBUS (power), B5 CC2 (io), B6 DP2 (io), B7 DN2 (io), B8 SBU2 (io), B9 VBUS (power), B10 SSRXN1 (io), B11 SSRXP1 (io), B12 GND (power), S1 SHIELD, S2 SHIELD, S3 SHIELD, S4 SHIELD

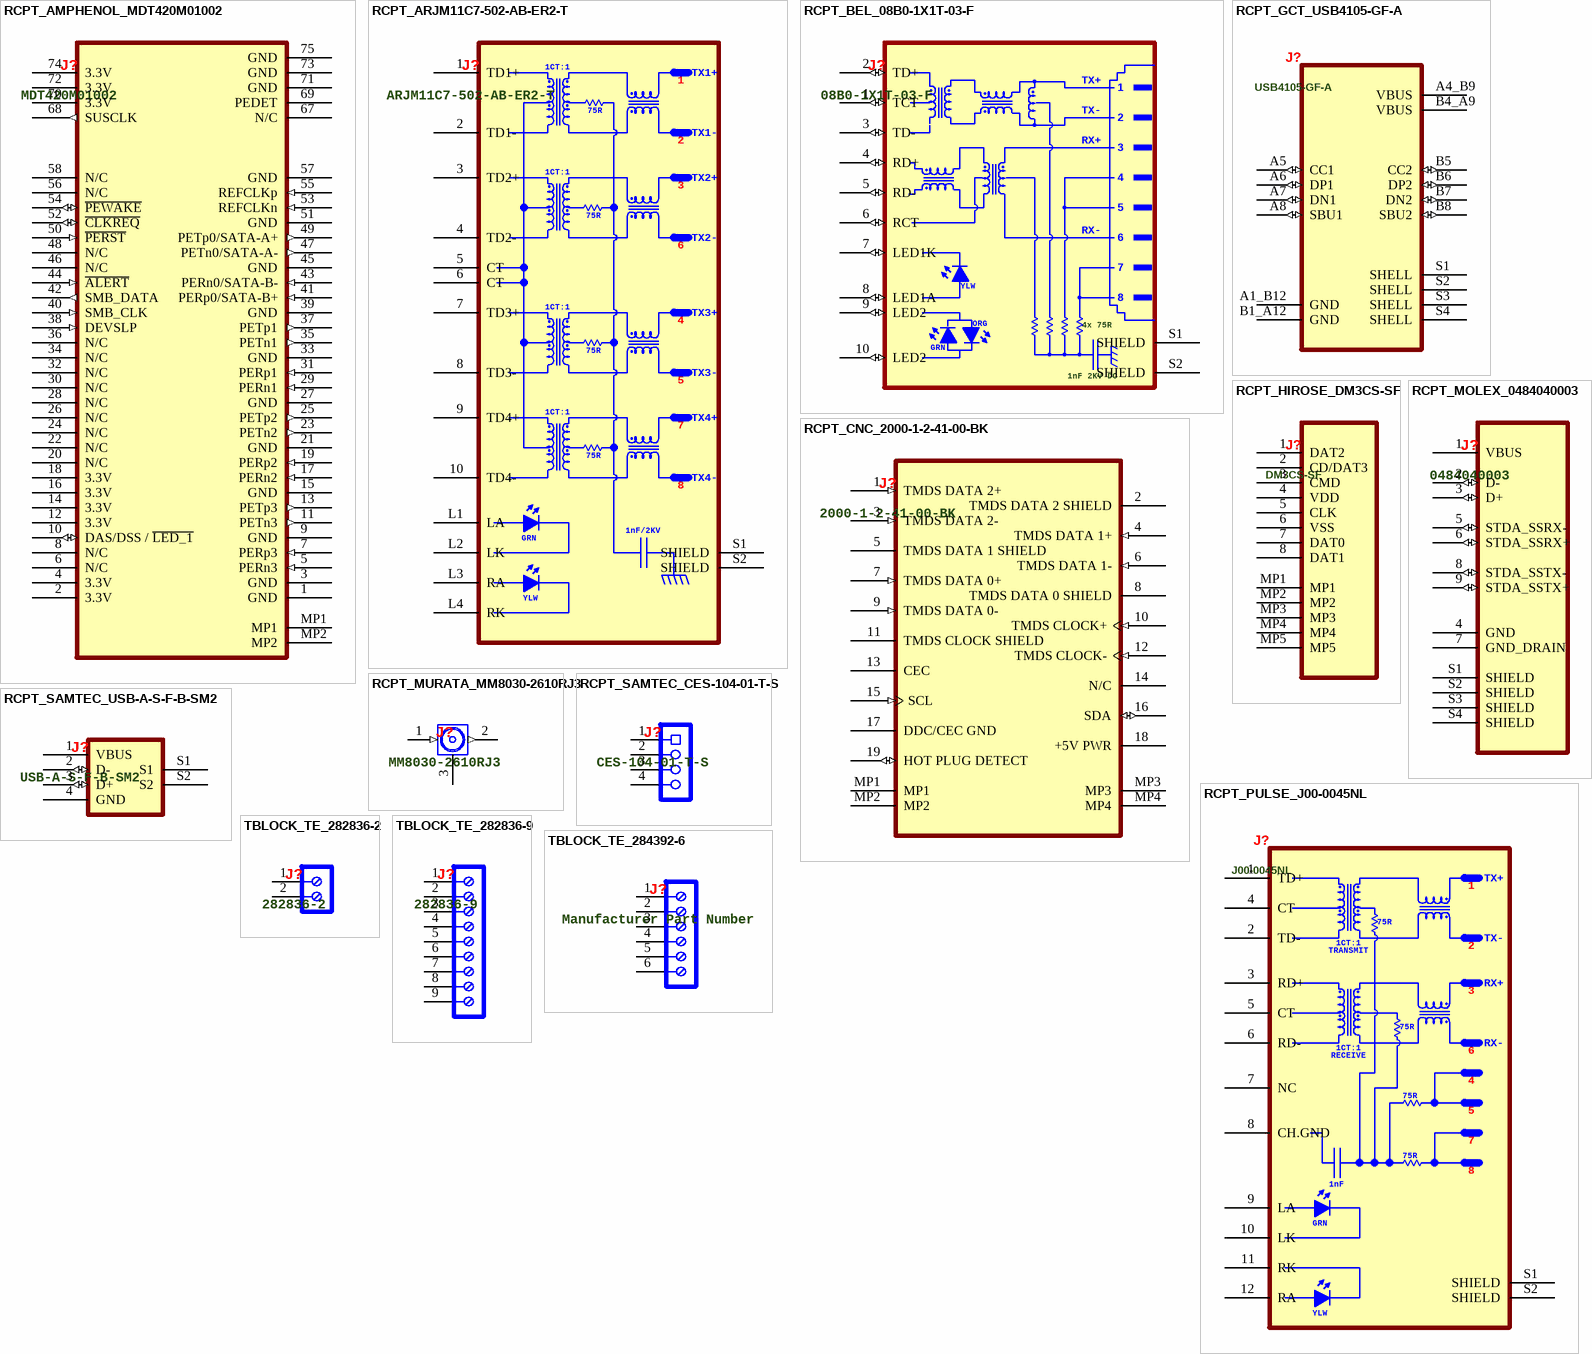
[diagram p1: symbols RCPT_AMPHENOL_MDT420M01002 to TBLOCK_TE_284392-6]

## RCPT_AMPHENOL_MDT420M01002
designator J?, comment MDT420M01002
67 Position Female Connector M.2 (NGFF) Mini Card Gold 0.020" (0.50mm) Black; Manufacturer: Amphenol Communications Solutions; Gender: Receptacle; Number of Contacts: 67; Manufacturer Part Number: MDT420M01002; Category: Card Edge Connectors; ComponentLink1Description: Datasheet; ComponentLink1URL: https://cdn.amphenol-cs.com/media/wysiwyg/files/drawing/cmdt420xxx002.pdf; Contact Plating: Gold; Max Operating Temperature: 80°C; Min Operating Temperature: -40°C; Number of Positions: 67; Number of Rows: 2; Pitch: 0.50mm; RoHS Compliant: Yes; Supplier 1: Digi-Key; Supplier Part Number 1: 609-6590TR-ND; Supplier 2: Mouser; Supplier Part Number 2: 649-MDT420M01002
footprint AMPHENOL_MDT420M01002 (67 Position Female Connector M.2 (NGFF) Mini Card Gold 0.020" (0.50mm) Black)
pins: 1 GND (power) "Ground", 2 3.3V (power) "Supply Pin", 3 GND (power) "Ground", 4 3.3V (power) "Supply Pin", 5 PERn3 (in) "PCIe Lane 3 RX", 6 N/C "Not Connected", 7 PERp3 (in) "PCIe Lane 3 RX", 8 N/C "Not Connected", 9 GND (power) "Ground", 10 DAS/DSS / ~{LED_1} (io) "Device Activity Signal / Disable Staggered Spinup (I/O) - LED1# (I)", 11 PETn3 (out) "PCIe Lane 3 TX", 12 3.3V (power) "Supply Pin", 13 PETp3 (out) "PCIe Lane 3 TX", 14 3.3V (power) "Supply Pin", 15 GND (power) "Ground", 16 3.3V (power) "Supply Pin", 17 PERn2 (in) "PCIe Lane 2 RX", 18 3.3V (power) "Supply Pin", 19 PERp2 (in) "PCIe Lane 2 RX", 20 N/C "Not Connected", 21 GND (power) "Ground", 22 N/C "Not Connected", 23 PETn2 (out) "PCIe Lane 2 TX", 24 N/C "Not Connected", 25 PETp2 (out) "PCIe Lane 2 TX", 26 N/C "Not Connected", 27 GND (power) "Ground", 28 N/C "Not Connected", 29 PERn1 (in) "PCIe Lane 1 RX", 30 N/C "Not Connected", 31 PERp1 (in) "PCIe Lane 1 RX", 32 N/C "Not Connected", 33 GND (power) "Ground", 34 N/C "Not Connected", 35 PETn1 (out) "PCIe Lane 1 TX", 36 N/C "Not Connected", 37 PETp1 (out) "PCIe Lane 1 TX", 38 DEVSLP (in) "Device Sleep", 39 GND (power) "Ground", 40 SMB_CLK (in) "SMBus Clock Signal", 41 PERp0/SATA-B+ (in) "Host Receiver Diff Signal Pair. If in PCIe mode PCIe Lane 0 RX", 42 SMB_DATA (out) "SMBus Data Signal", 43 PERn0/SATA-B- (in) "Host Receiver Diff Signal Pair. If in PCIe mode PCIe Lane 0 RX", 44 ~{ALERT} (in) "I2C Bus Alert Signal", 45 GND (power) "Ground", 46 N/C "Not Connected", 47 PETn0/SATA-A- (out) "Host Transmitter Diff Signal Pair. If in PCIe mode PCIe Lane 0 TX", 48 N/C "Not Connected", 49 PETp0/SATA-A+ (out) "Host Transmitter Diff Signal Pair. If in PCIe mode PCIe Lane 0 TX", 50 ~{PERST} (in) "PCIe Reset", 51 GND (power) "Ground", 52 ~{CLKREQ} (io) "Reference Clock Request Signal", 53 REFCLKn (in) "PCIe Reference Clock Signals (100MHz)", 54 ~{PEWAKE} (io), 55 REFCLKp (in) "PCIe Reference Clock Signals (100MHz)", 56 N/C "Not Connected", 57 GND (power) "Ground", 58 N/C "Not Connected", 67 N/C "Not Connected", 68 SUSCLK (out) "32.768KHz Clock Supply Input", 69 PEDET "NC=PCIe - GND=SATA", 70 3.3V (power) "Supply Pin", 71 GND (power) "Ground", 72 3.3V (power) "Supply Pin", 73 GND (power) "Ground", 74 3.3V (power) "Supply Pin", 75 GND (power) "Ground", MP1 "Metal Plate", MP2 "Metal Plate"

## RCPT_ARJM11C7-502-AB-ER2-T
designator J?, comment ARJM11C7-502-AB-ER2-T
RJ45 1 Port Through Hole 10/100/1000 Base-T, AutoMDIX; Manufacturer: Abracon; Gender: Receptacle; Voltage Rating: 2250V; Number of Contacts: 14; Manufacturer Part Number: ARJM11C7-502-AB-ER2-T; Category: Modular / Ethernet Connectors; Contact Plating: Gold; Min Operating Temperature: -40°C; Max Operating Temperature: 85°C; Number of Rows: 1; RoHS Compliant: Yes; ComponentLink1URL: https://abracon.com/Magnetics/ARJM11.pdf?src-supplier=Digi-Key; ComponentLink1Description: Datasheet; Orientation: Right Angle; Supplier 1: Digi-Key; Supplier Part Number 1: 535-14130-1-ND; Supplier 2: Mouser; Supplier Part Number 2: 815-RJM11C7502ABER2T
footprint ABRACON_ARJM11C7-502-AB-ER2-T (1 Port RJ45 Through Hole 10/100/1000 Base-T, AutoMDIX)
pins: 1 TD1+, 2 TD1-, 3 TD2+, 4 TD2-, 5 CT, 6 CT, 7 TD3+, 8 TD3- (power), 9 TD4+, 10 TD4- (power), L1 LA, L2 LK, L3 RA, L4 RK, S1 SHIELD, S2 SHIELD
text: 1CT:1; TX1+; 75R; TX1-; TX2+; TX2-; TX3+; TX3-; TX4+; TX4-; 1nF/2KV; GRN; YLW

## RCPT_BEL_08B0-1X1T-03-F
designator J?, comment 08B0-1X1T-03-F
RJ45 1 Port Integrated Magnetics F 8 POS 2.03mm Solder RA Thru-Hole; Manufacturer: Bel; Gender: Receptacle; Voltage Rating: 1500V; Number of Contacts: 12; Manufacturer Part Number: 08B0-1X1T-03-F; Category: Modular / Ethernet Connectors; ComponentLink1URL: https://www.belfuse.com/resources/drawings/magneticsolutions/dr-mag-08b0-1x1t-03-f.pdf; ComponentLink1Description: Datasheet; Contact Plating: Gold; Max Operating Temperature: 70°C; Min Operating Temperature: 0°C; Orientation: Right Angle; RoHS Compliant: Yes; Supplier 1: Digi-Key; Supplier Part Number 1: 507-1444-ND; Supplier 2: Mouser; Supplier Part Number 2: 530-08B0-1X1T-03-F; Number of Rows: 1
footprint BEL_08B0-1X1T-03-F (1 Port RJ45 Through Hole 10/100 Base-T)
pins: 1 TCT (io), 2 TD+ (io), 3 TD- (io), 4 RD+ (io), 5 RD- (io), 6 RCT (io), 7 LED1K (io), 8 LED1A (io), 9 LED2 (io), 10 LED2 (io), S1 SHIELD (power), S2 SHIELD (power)
text: TX+; TX-; RX+; RX-; YLW; ORG; 4x 75R; GRN; 1nF 2KV DC

## RCPT_CNC_2000-1-2-41-00-BK
designator J?, comment 2000-1-2-41-00-BK
Receptacle HDMI 19 Position Surface Mount, Right Angle; Manufacturer: CNC Tech; Number of Contacts: 19; Current Rating: 0.5A; Voltage Rating: 40V; Manufacturer Part Number: 2000-1-2-41-00-BK; Category: USB, DVI, HDMI Connectors; Gender: Receptacle; ComponentLink1URL: http://www.cnctech.us/pdfs/2000-1-2-41-00-BK.pdf; ComponentLink1Description: Datasheet; Contact Plating: Gold; Max Operating Temperature: 85°C; Min Operating Temperature: -20°C; Orientation: Right Angle; RoHS Compliant: Yes; Supplier 1: Digi-Key; Supplier Part Number 1: 1175-1703-ND
footprint CNC_2000-1-2-41-00-BK (HDMI Receptacle Connector 19 Position Surface Mount, Right Angle)
pins: 1 TMDS DATA 2+ (in), 2 TMDS DATA 2 SHIELD (power), 3 TMDS DATA 2- (in), 4 TMDS DATA 1+ (in), 5 TMDS DATA 1 SHIELD (power), 6 TMDS DATA 1- (in), 7 TMDS DATA 0+ (in), 8 TMDS DATA 0 SHIELD (power), 9 TMDS DATA 0- (in), 10 TMDS CLOCK+ (in), 11 TMDS CLOCK SHIELD (power), 12 TMDS CLOCK- (in), 13 CEC, 14 N/C, 15 SCL (in), 16 SDA (io), 17 DDC/CEC GND (power), 18 +5V PWR (power), 19 HOT PLUG DETECT (io), MP1 (power), MP2 (power), MP3 (power), MP4 (power)

## RCPT_GCT_USB4105-GF-A
designator J?, comment USB4105-GF-A
Receptacle USB-C (USB TYPE-C) USB 2.0 24 (16+8 Dummy) Position Surface Mount, Right Angle; Through Hole; Manufacturer: Global Connector Technology; Voltage Rating (DC): 20V; Voltage Rating: 100V; Manufacturer Part Number: USB4105-GF-A; Category: USB, DVI, HDMI Connectors; Contact Plating: Gold; Min Operating Temperature: -40°C; Max Operating Temperature: 85°C; Gender: Receptacle; Number of Contacts: 24 (16+8 Dummy); RoHS Compliant: Yes; ComponentLink1Description: Datasheet; ComponentLink1URL: https://gct.co/files/drawings/usb4105.pdf; Orientation: Right Angle
footprint GCT_USB4105-GF-A (USB-C (USB TYPE-C) USB 2.0 Receptacle Connector 24 (16+8 Dummy) Position Surface Mount, Right Angle; Through Hole)
pins: A1_B12 GND (power) "Ground", A4_B9 VBUS (power) "Ground", A5 CC1 (io), A6 DP1 (io), A7 DN1 (io), A8 SBU1 (io), B1_A12 GND (power) "Ground", B4_A9 VBUS (power) "Ground", B5 CC2 (io), B6 DP2 (io), B7 DN2 (io), B8 SBU2 (io), S1 SHELL (power), S2 SHELL (power), S3 SHELL (power), S4 SHELL (power)

## RCPT_HIROSE_DM3CS-SF
designator J?, comment DM3CS-SF
Receptacle MicroSD 10 (8 + 2) Position Card Secure Digital -  Surface Mount, Right Angle Gold; Manufacturer: Hirose; Supplier 1: Digi-Key; Manufacturer Part Number: DM3CS-SF; Category: Memory Connectors; ComponentLink1URL: https://www.hirose.com/product/document?clcode=CL0609-0033-6-00&productname=DM3AT-SF-PEJ2M5&series=DM3&documenttype=Catalog&lang=en&documentid=D49662_en; ComponentLink1Description: Datasheet; Supplier 2: Mouser; Supplier Part Number 1: HR1972CT-ND; Supplier Part Number 2: 798-DM3CSSF; Contact Plating: Gold; Gender: Receptacle; Number of Contacts: 10 (8+2); Orientation: Right Angle; RoHS Compliant: Yes
footprint HIROSE_DM3CSSF (10 (8 + 2) Position Card Connector Secure Digital - microSD™ Surface Mount, Right Angle Gold)
pins: 1 DAT2, 2 CD/DAT3, 3 CMD, 4 VDD, 5 CLK, 6 VSS, 7 DAT0, 8 DAT1, MP1, MP2, MP3, MP4, MP5

## RCPT_MOLEX_0484040003
designator J?, comment 0484040003
Receptacle USB-A (USB TYPE-A) USB 3.2 Gen 1 (USB 3.1 Gen 1, Superspeed (USB 3.0)) 9 Position Through Hole, Right Angle; Manufacturer: Molex; Current Rating: 1.8A; Number of Contacts: 9; Voltage Rating: 30V; Manufacturer Part Number: 0484040003; Category: USB, DVI, HDMI Connectors; ComponentLink1Description: Datasheet; ComponentLink1URL: https://rhu103.sma-promail.com/SQLImages/kelmscott/Molex/PDF_Images/987651-0181.PDF; Contact Plating: Gold; Gender: Receptacle; Max Operating Temperature: 85°C; Min Operating Temperature: -20°C; Orientation: Vertical, Right Angle; RoHS Compliant: Yes; Supplier 1: Digi-Key; Supplier Part Number 1: WM10418-ND; Supplier 2: Mouser; Supplier Part Number 2: 538-48404-0003
footprint MOLEX_0484040003 (USB-A (USB TYPE-A) USB 3.2 Gen 1 (USB 3.1 Gen 1, Superspeed (USB 3.0)) Receptacle Connector 9 Position Through Hole, Right Angle)
pins: 1 VBUS (power) "Power", 2 D- (io) "USB2.0 Differential Pair", 3 D+ (io) "USB2.0 Differential Pair", 4 GND (power) "Ground for power return", 5 STDA_SSRX- (io) "SuperSpeed Receiver Diff Pair", 6 STDA_SSRX+ (io) "SuperSpeed Receiver Diff Pair", 7 GND_DRAIN (power) "Ground for signal return", 8 STDA_SSTX- (io) "SuperSpeed Transmitter Diff Pair", 9 STDA_SSTX+ (io) "SuperSpeed Transmitter Diff Pair", S1 SHIELD (power) "Connector metal shell", S2 SHIELD (power) "Connector metal shell", S3 SHIELD (power) "Connector metal shell", S4 SHIELD (power) "Connector metal shell"

## RCPT_MURATA_MM8030-2610RJ3
designator J?, comment MM8030-2610RJ3
Receptacle SWG, Female Socket 50Ohm Surface Mount Solder; Manufacturer: Murata; Impedance: 50R; Voltage Rating: 250V; Clock Frequency: 11GHz; Operating Frequency: 0 to 11 GHz; Number of Contacts: 3; Manufacturer Part Number: MM8030-2610RJ3; Category: RF / Coaxial Connectors; Contact Plating: Gold; Min Operating Temperature: -40°C; Max Operating Temperature: 85°C; Frequency: 11GHz; Orientation: Straight; RoHS Compliant: Yes; ComponentLink1URL: https://media.digikey.com/pdf/Data%20Sheets/Murata%20PDFs/Microwave_Coaxial_Conn_Cat030E.pdf; ComponentLink1Description: Datasheet; Gender: Receptacle; Supplier 1: Digi-Key; Supplier Part Number 1: 490-5907-1-ND; Supplier 2: Mouser; Supplier Part Number 2: 81-MM8030-2610RJ3
footprint MURATA_MM8030-2610RJ3 (SWG Connector Receptacle, Female Socket 50Ohm Surface Mount Solder)
pins: 1 IN (in), 2 OUT (out), 3 GND (power)

## RCPT_PULSE_J00-0045NL
designator J?, comment J00-0045NL
RJ45 1 Port  Through Hole 10/100 Base-TX, AutoMDIX; Manufacturer: Pulse; Gender: Receptacle; Voltage Rating: 2250V; Number of Contacts: 12; Manufacturer Part Number: J00-0045NL; Category: Modular / Ethernet Connectors; Contact Plating: Gold; Min Operating Temperature: 0°C; Max Operating Temperature: 70°C; Orientation: Right Angle; RoHS Compliant: Yes; ComponentLink1Description: Datasheet; ComponentLink1URL: https://media.digikey.com/pdf/Data%20Sheets/Pulse%20PDFs/J00_Series_Rev_Mar2019.pdf; Supplier 1: Digi-Key; Supplier Part Number 1: 553-1619-5-ND; Supplier 2: Mouser; Supplier Part Number 2: 673-J00-0045NL; Number of Rows: 1
footprint PULSE_J00-0045NL (1 Port RJ45 Through Hole 10/100 Base-TX, AutoMDIX)
pins: 1 TD+, 2 TD-, 3 RD+, 4 CT, 5 CT, 6 RD-, 7 NC, 8 CH.GND (power), 9 LA, 10 LK, 11 RK, 12 RA, S1 SHIELD, S2 SHIELD
text: TX+; 75R; TX-; 1CT:1; TRANSMIT; RX+; RX-; RECEIVE; 1nF; GRN; YLW

## RCPT_SAMTEC_CES-104-01-T-S
designator J?, comment CES-104-01-T-S
Receptacle 4 Position 0.100" (2.54mm) Through Hole Tin; Manufacturer: Samtec; Number of Positions: 4; Current Rating: 5.5A; Voltage Rating: 400V; Manufacturer Part Number: CES-104-01-T-S; Category: Headers, Receptacles, Female Sockets; Contact Plating: Tin; Min Operating Temperature: -55°C; Max Operating Temperature: 105°C; Number of Rows: 1; Gender: Receptacle; Number of Contacts: 4; Orientation: Straight; Pitch: 2.54mm; RoHS Compliant: Yes; ComponentLink1URL: http://suddendocs.samtec.com/catalog_english/ces.pdf; ComponentLink1Description: Datasheet; Supplier 1: Mouser; Supplier Part Number 1: 200-CES10401TS
footprint SAMTEC_CES-104-01-T-S (4 Position Receptacle Connector 0.100" (2.54mm) Through Hole Tin)
pins: 1, 2, 3, 4

## RCPT_SAMTEC_USB-A-S-F-B-SM2
designator J?, comment USB-A-S-F-B-SM2
Receptacle USB-A (USB TYPE-A) USB 2.0 4 Position Surface Mount, Right Angle; Manufacturer: Samtec; Number of Contacts: 4; Voltage Rating: 30V; Manufacturer Part Number: USB-A-S-F-B-SM2; Category: USB, DVI, HDMI Connectors; Contact Plating: Gold; Min Operating Temperature: -50°C; Max Operating Temperature: 85°C; Orientation: Right Angle; Gender: Receptacle; RoHS Compliant: Yes; ComponentLink1URL: https://www.digikey.com/htmldatasheets/production/970890/0/0/1/usb-a-s-x-x-sm2-x-xx-drawing.pdf; ComponentLink1Description: Datasheet; Supplier 1: Digi-Key; Supplier Part Number 1: SAM10366-ND; Supplier 2: Mouser; Supplier Part Number 2: 200-USBASFBSM2
footprint SAMTEC_USB-A-S-F-B-SM2 (USB-A (USB TYPE-A) USB 2.0 Receptacle Connector 4 Position Surface Mount, Right Angle)
pins: 1 VBUS (power), 2 D- (io), 3 D+ (io), 4 GND (power), S1, S2

## TBLOCK_TE_282836-2
designator J?, comment 282836-2
Terminal Block 2 Position Wire to Board Horizontal with Board 0.197" (5.00mm) Through Hole; Manufacturer: TE Connectivity; Number of Contacts: 2; Current Rating: 13.5A; Voltage Rating: 300V; Pitch: 5mm; Wire Gauge (Max): 30AWG; Wire Gauge (Min): 16AWG; Gender: Receptacle; Manufacturer Part Number: 282836-2; Category: Terminal Blocks; Color: Green; Contact Plating: Tin; Number of Rows: 1; Orientation: Straight; Number of Positions: 2; RoHS Compliant: Yes; ComponentLink1URL: https://www.te.com/commerce/DocumentDelivery/DDEController?Action=srchrtrv&DocNm=1308389_EUROSTYLE_TERMINAL_BLOCKS&DocType=CS&DocLang=English; ComponentLink1Description: Datasheet; Supplier 1: Digi-Key; Supplier Part Number 1: A98076-ND; Supplier 2: Mouser; Supplier Part Number 2: 571-2828362
footprint TE_282836-2 (2 Position Wire to Board Terminal Block Horizontal with Board 0.197" (5.00mm) Through Hole)
pins: 1, 2

## TBLOCK_TE_282836-9
designator J?, comment 282836-9
Terminal Block 9 Position Wire to Board Horizontal with Board 0.197" (5.00mm) Through Hole; Manufacturer: TE Connectivity; Number of Contacts: 9; Current Rating: 13.5A; Voltage Rating: 300V; Pitch: 5mm; Wire Gauge (Max): 30AWG; Wire Gauge (Min): 16AWG; Gender: Receptacle; Manufacturer Part Number: 282836-9; Category: Terminal Blocks; Contact Plating: Tin; Color: Green; Number of Rows: 1; Orientation: Straight; Number of Positions: 9; RoHS Compliant: Yes; ComponentLink1Description: Datasheet; ComponentLink1URL: https://www.te.com/commerce/DocumentDelivery/DDEController?Action=srchrtrv&DocNm=282836&DocType=Customer+Drawing&DocLang=English; Supplier 1: Digi-Key; Supplier Part Number 1: A106584-ND; Supplier 2: Mouser; Supplier Part Number 2: 571-282836-9
footprint TE_282836-9 (9 Position Wire to Board Terminal Block Horizontal with Board 0.197" (5.00mm) Through Hole)
pins: 1, 2, 3, 4, 5, 6, 7, 8, 9

## TBLOCK_TE_284392-6
designator J?, comment Manufacturer Part Number
Terminal Block 6 Position Wire to Board Horizontal with Board 0.150" (3.81mm) Through Hole; Manufacturer: TE Connectivity; Manufacturer Part Number: 284392-6; Current Rating: 12A; Gender: Receptacle; Number of Contacts: 6; Voltage Rating: 300V; Wire Gauge (Max): 30AWG; Wire Gauge (Min): 14AWG; Category: Terminal Blocks; ComponentLink1URL: https://www.digikey.com/htmldatasheets/production/212433/0/0/1/284392-4.pdf; ComponentLink1Description: Datasheet; Color: Green; Contact Plating: Tin; Number of Positions: 6; Number of Rows: 1; Orientation: Straight; Pitch: 3.81mm; RoHS Compliant: Yes; Supplier 1: Digi-Key; Supplier 2: Mouser; Supplier Part Number 1: A98373-ND; Supplier Part Number 2: 571-284392-6
footprint TE_284392-6 (6 Position Wire to Board Terminal Block Horizontal with Board 0.150" (3.81mm) Through Hole)
pins: 1, 2, 3, 4, 5, 6